# Altium schematic symbol library CRGCQ0805J10K.SchLib: 1 symbol
Pins are listed as number, name and electrical type; pins without a type are passive.

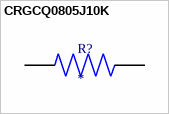
[diagram p0: symbol CRGCQ0805J10K]

## CRGCQ0805J10K
designator R?
Fixed Resistor CRGCQ 0805 10K 5%; MP: CRGCQ0805J10K; MF: {'manufacturer': u'TE Connectivity'}; Price: None; Package: None; Availability: Unavailable; Value: *
footprint RESC2012X65N
pins: 1, 2